# EAGLE library part AD8544ARUZ (library (common)-parts-that-we-use)
General-Purpose Amplifiers
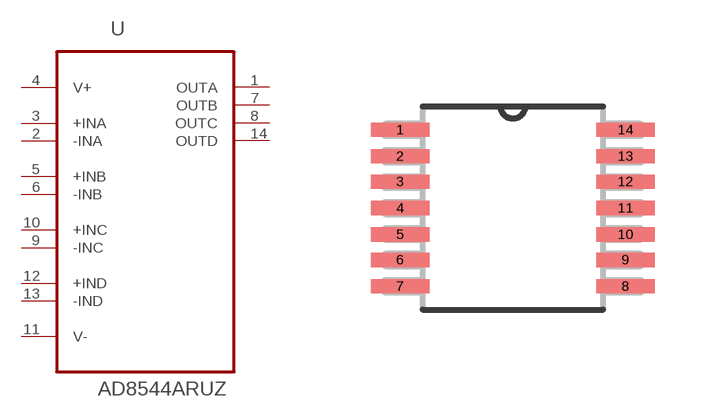
[diagram p2: symbol with the pads of SOP65P640X120-14N; footprint SOP65P640X120-14N]

Designator prefix U

## AD8544ARUZ (MPN: AD8544ARUZ; OC_FARNELL: 1333257; OC_NEWARK: 19M8915; PACKAGE: TSSOP-14; SUPPLIER: Analog Devices)  [SOP65P640X120-14N]
1  OUTA  out
2  -INA  in
3  +INA  in
4  V+  pwr
5  +INB  in
6  -INB  in
7  OUTB  out
8  OUTC  out
9  -INC  in
10  +INC  in
11  V-  pwr
12  +IND  in
13  -IND  in
14  OUTD  out

## Footprint SOP65P640X120-14N (pad centres in mm)
smd 1.473 x 0.356: 1 -2.819,1.956; 2 -2.819,1.295; 3 -2.819,0.66; 4 -2.819,0; 5 -2.819,-0.66; 6 -2.819,-1.295; 7 -2.819,-1.956; 8 2.819,-1.956; 9 2.819,-1.295; 10 2.819,-0.66; 11 2.819,0; 12 2.819,0.66; 13 2.819,1.295; 14 2.819,1.956